# Altium schematic symbol library DSC60XX.SchLib: 1 symbol
Pins are listed as number, name and electrical type; pins without a type are passive.

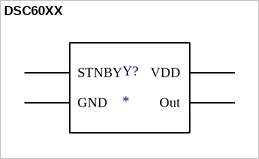
[diagram p0: symbol DSC60XX]

## DSC60XX
designator Y?
PartNumber: DSC6083CI2A-032K768; Manufacturer: Microchip Technology; Supplier 1: Digi-Key; Supplier Part Number 1: DSC6083CI2A-032K768-ND
footprint DSC60XX
pins: 1 STNBY, 2 GND, 3 Out, 4 VDD